# Altium schematic symbol library 0484040003.SchLib: 1 symbol
Pins are listed as number, name and electrical type; pins without a type are passive.

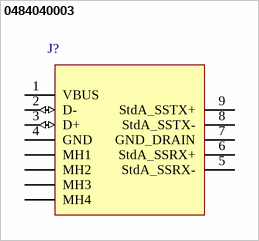
[diagram p0: symbol 0484040003]

## 0484040003
designator J?
pins: 1 VBUS (power), 2 D- (io), 3 D+ (io), 4 GND, 5 StdA_SSRX-, 6 StdA_SSRX+, 7 GND_DRAIN, 8 StdA_SSTX-, 9 StdA_SSTX+, MH1, MH2, MH3, MH4